# EAGLE library part LC4256ZE_XXMN144_S (library lattice_ispMACH4000ZE)
ispMACH 4256ZE csBGA144, Split Lattice Semiconductor Corporation - ispMACH 4000ZE Ultra Low Power, Low Cost CPLD Family Generated using Lattice BSDL models: http://www.latticesemi.com/dynamic/index.cfm?fuseaction=view_documents&document_type=36&sloc=01-01-02-01&source=sidebar
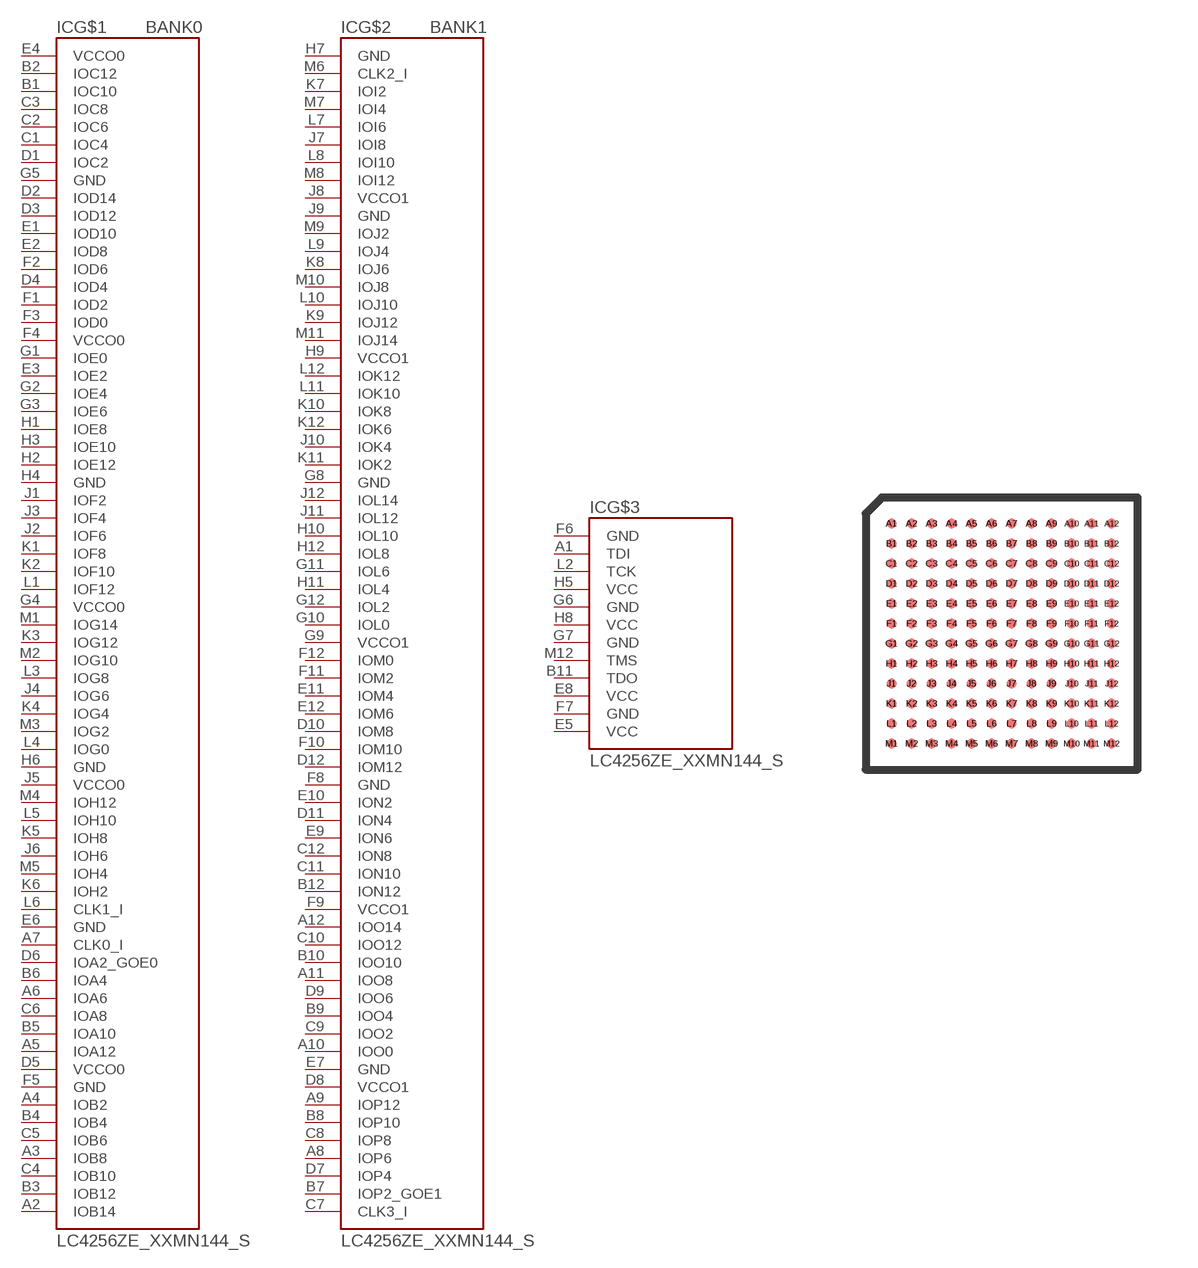
[diagram p23: symbol with the pads of CSBGA144; footprint CSBGA144]

Designator prefix IC; gates G$1=ISPMACH_LC4256ZE_MN144_PARTA G$2=ISPMACH_LC4256ZE_MN144_PARTB G$3=ISPMACH_LC4256ZE_MN144_PARTC

## LC4256ZE_XXMN144_S  [CSBGA144]
A1  G$3:TDI  in
A2  G$1:IOB14
A3  G$1:IOB8
A4  G$1:IOB2
A5  G$1:IOA12
A6  G$1:IOA6
A7  G$1:CLK0_I  in
A8  G$2:IOP6
A9  G$2:IOP12
A10  G$2:IOO0
A11  G$2:IOO8
A12  G$2:IOO14
B1  G$1:IOC10
B2  G$1:IOC12
B3  G$1:IOB12
B4  G$1:IOB4
B5  G$1:IOA10
B6  G$1:IOA4
B7  G$2:IOP2_GOE1
B8  G$2:IOP10
B9  G$2:IOO4
B10  G$2:IOO10
B11  G$3:TDO  out
B12  G$2:ION12
C1  G$1:IOC4
C2  G$1:IOC6
C3  G$1:IOC8
C4  G$1:IOB10
C5  G$1:IOB6
C6  G$1:IOA8
C7  G$2:CLK3_I  in
C8  G$2:IOP8
C9  G$2:IOO2
C10  G$2:IOO12
C11  G$2:ION10
C12  G$2:ION8
D1  G$1:IOC2
D2  G$1:IOD14
D3  G$1:IOD12
D4  G$1:IOD4
D5  G$1:VCCO0  pwr
D6  G$1:IOA2_GOE0
D7  G$2:IOP4
D8  G$2:VCCO1  pwr
D9  G$2:IOO6
D10  G$2:IOM8
D11  G$2:ION4
D12  G$2:IOM12
E1  G$1:IOD10
E2  G$1:IOD8
E3  G$1:IOE2
E4  G$1:VCCO0  pwr
E5  G$3:VCC  pwr
E6  G$1:GND  pwr
E7  G$2:GND  pwr
E8  G$3:VCC  pwr
E9  G$2:ION6
E10  G$2:ION2
E11  G$2:IOM4
E12  G$2:IOM6
F1  G$1:IOD2
F2  G$1:IOD6
F3  G$1:IOD0
F4  G$1:VCCO0  pwr
F5  G$1:GND  pwr
F6  G$3:GND  pwr
F7  G$3:GND  pwr
F8  G$2:GND  pwr
F9  G$2:VCCO1  pwr
F10  G$2:IOM10
F11  G$2:IOM2
F12  G$2:IOM0
G1  G$1:IOE0
G2  G$1:IOE4
G3  G$1:IOE6
G4  G$1:VCCO0  pwr
G5  G$1:GND  pwr
G6  G$3:GND  pwr
G7  G$3:GND  pwr
G8  G$2:GND  pwr
G9  G$2:VCCO1  pwr
G10  G$2:IOL0
G11  G$2:IOL6
G12  G$2:IOL2
H1  G$1:IOE8
H2  G$1:IOE12
H3  G$1:IOE10
H4  G$1:GND  pwr
H5  G$3:VCC  pwr
H6  G$1:GND  pwr
H7  G$2:GND  pwr
H8  G$3:VCC  pwr
H9  G$2:VCCO1  pwr
H10  G$2:IOL10
H11  G$2:IOL4
H12  G$2:IOL8
J1  G$1:IOF2
J2  G$1:IOF6
J3  G$1:IOF4
J4  G$1:IOG6
J5  G$1:VCCO0  pwr
J6  G$1:IOH6
J7  G$2:IOI8
J8  G$2:VCCO1  pwr
J9  G$2:GND  pwr
J10  G$2:IOK4
J11  G$2:IOL12
J12  G$2:IOL14
K1  G$1:IOF8
K2  G$1:IOF10
K3  G$1:IOG12
K4  G$1:IOG4
K5  G$1:IOH8
K6  G$1:IOH2
K7  G$2:IOI2
K8  G$2:IOJ6
K9  G$2:IOJ12
K10  G$2:IOK8
K11  G$2:IOK2
K12  G$2:IOK6
L1  G$1:IOF12
L2  G$3:TCK  in
L3  G$1:IOG8
L4  G$1:IOG0
L5  G$1:IOH10
L6  G$1:CLK1_I  in
L7  G$2:IOI6
L8  G$2:IOI10
L9  G$2:IOJ4
L10  G$2:IOJ10
L11  G$2:IOK10
L12  G$2:IOK12
M1  G$1:IOG14
M2  G$1:IOG10
M3  G$1:IOG2
M4  G$1:IOH12
M5  G$1:IOH4
M6  G$2:CLK2_I  in
M7  G$2:IOI4
M8  G$2:IOI12
M9  G$2:IOJ2
M10  G$2:IOJ8
M11  G$2:IOJ14
M12  G$3:TMS  in

## Footprint CSBGA144 (pad centres in mm)
csBGA - 144 http://www.latticesemi.com/lit/docs/package/pkg.pdf
smd 0.25 x 0.25: A1 -2.75,2.75; A2 -2.25,2.75; A3 -1.75,2.75; A4 -1.25,2.75; A5 -0.75,2.75; A6 -0.25,2.75; A7 0.25,2.75; A8 0.75,2.75; A9 1.25,2.75; A10 1.75,2.75; A11 2.25,2.75; A12 2.75,2.75; B1 -2.75,2.25; B2 -2.25,2.25; B3 -1.75,2.25; B4 -1.25,2.25; B5 -0.75,2.25; B6 -0.25,2.25; B7 0.25,2.25; B8 0.75,2.25; B9 1.25,2.25; B10 1.75,2.25; B11 2.25,2.25; B12 2.75,2.25; C1 -2.75,1.75; C2 -2.25,1.75; C3 -1.75,1.75; C4 -1.25,1.75; C5 -0.75,1.75; C6 -0.25,1.75; C7 0.25,1.75; C8 0.75,1.75; C9 1.25,1.75; C10 1.75,1.75; C11 2.25,1.75; C12 2.75,1.75; D1 -2.75,1.25; D2 -2.25,1.25; D3 -1.75,1.25; D4 -1.25,1.25; D5 -0.75,1.25; D6 -0.25,1.25; D7 0.25,1.25; D8 0.75,1.25; D9 1.25,1.25; D10 1.75,1.25; D11 2.25,1.25; D12 2.75,1.25; E1 -2.75,0.75; E2 -2.25,0.75; E3 -1.75,0.75; E4 -1.25,0.75; E5 -0.75,0.75; E6 -0.25,0.75; E7 0.25,0.75; E8 0.75,0.75; E9 1.25,0.75; E10 1.75,0.75; E11 2.25,0.75; E12 2.75,0.75; F1 -2.75,0.25; F2 -2.25,0.25; F3 -1.75,0.25; F4 -1.25,0.25; F5 -0.75,0.25; F6 -0.25,0.25; F7 0.25,0.25; F8 0.75,0.25; F9 1.25,0.25; F10 1.75,0.25; F11 2.25,0.25; F12 2.75,0.25; G1 -2.75,-0.25; G2 -2.25,-0.25; G3 -1.75,-0.25; G4 -1.25,-0.25; G5 -0.75,-0.25; G6 -0.25,-0.25; G7 0.25,-0.25; G8 0.75,-0.25; G9 1.25,-0.25; G10 1.75,-0.25; G11 2.25,-0.25; G12 2.75,-0.25; H1 -2.75,-0.75; H2 -2.25,-0.75; H3 -1.75,-0.75; H4 -1.25,-0.75; H5 -0.75,-0.75; H6 -0.25,-0.75; H7 0.25,-0.75; H8 0.75,-0.75; H9 1.25,-0.75; H10 1.75,-0.75; H11 2.25,-0.75; H12 2.75,-0.75; J1 -2.75,-1.25; J2 -2.25,-1.25; J3 -1.75,-1.25; J4 -1.25,-1.25; J5 -0.75,-1.25; J6 -0.25,-1.25; J7 0.25,-1.25; J8 0.75,-1.25; J9 1.25,-1.25; J10 1.75,-1.25; J11 2.25,-1.25; J12 2.75,-1.25; K1 -2.75,-1.75; K2 -2.25,-1.75; K3 -1.75,-1.75; K4 -1.25,-1.75; K5 -0.75,-1.75; K6 -0.25,-1.75; K7 0.25,-1.75; K8 0.75,-1.75; K9 1.25,-1.75; K10 1.75,-1.75; K11 2.25,-1.75; K12 2.75,-1.75; L1 -2.75,-2.25; L2 -2.25,-2.25; L3 -1.75,-2.25; L4 -1.25,-2.25; L5 -0.75,-2.25; L6 -0.25,-2.25; L7 0.25,-2.25; L8 0.75,-2.25; L9 1.25,-2.25; L10 1.75,-2.25; L11 2.25,-2.25; L12 2.75,-2.25; M1 -2.75,-2.75; M2 -2.25,-2.75; M3 -1.75,-2.75; M4 -1.25,-2.75; M5 -0.75,-2.75; M6 -0.25,-2.75; M7 0.25,-2.75; M8 0.75,-2.75; M9 1.25,-2.75; M10 1.75,-2.75; M11 2.25,-2.75; M12 2.75,-2.75